# EAGLE library part CROSSBAR_24X18 (library crossbar_24x18)
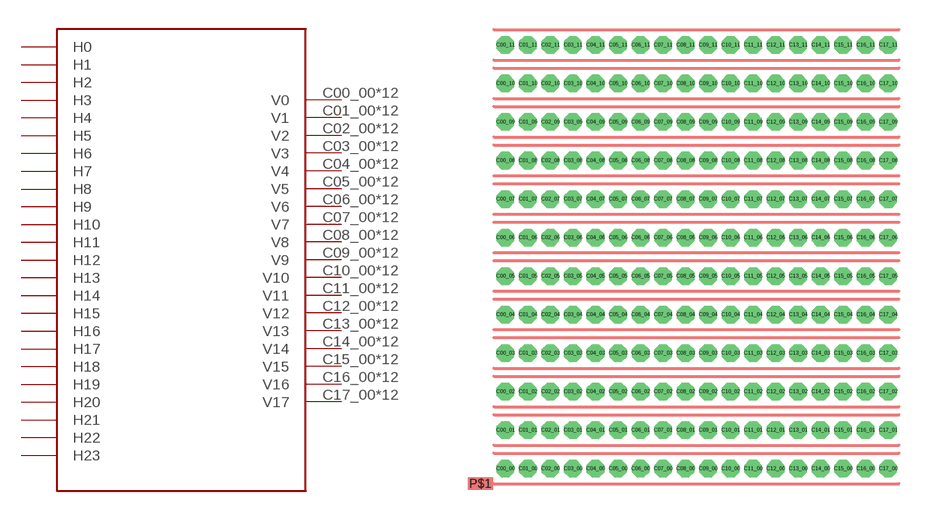
[diagram p0: symbol with the pads of CROSSBAR_24X18; footprint CROSSBAR_24X18]

Designator prefix -

## CROSSBAR_24X18  [CROSSBAR_24X18]
C00_00  V0
C00_01  V0
C00_02  V0
C00_03  V0
C00_04  V0
C00_05  V0
C00_06  V0
C00_07  V0
C00_08  V0
C00_09  V0
C00_10  V0
C00_11  V0
C01_00  V1
C01_01  V1
C01_02  V1
C01_03  V1
C01_04  V1
C01_05  V1
C01_06  V1
C01_07  V1
C01_08  V1
C01_09  V1
C01_10  V1
C01_11  V1
C02_00  V2
C02_01  V2
C02_02  V2
C02_03  V2
C02_04  V2
C02_05  V2
C02_06  V2
C02_07  V2
C02_08  V2
C02_09  V2
C02_10  V2
C02_11  V2
C03_00  V3
C03_01  V3
C03_02  V3
C03_03  V3
C03_04  V3
C03_05  V3
C03_06  V3
C03_07  V3
C03_08  V3
C03_09  V3
C03_10  V3
C03_11  V3
C04_00  V4
C04_01  V4
C04_02  V4
C04_03  V4
C04_04  V4
C04_05  V4
C04_06  V4
C04_07  V4
C04_08  V4
C04_09  V4
C04_10  V4
C04_11  V4
C05_00  V5
C05_01  V5
C05_02  V5
C05_03  V5
C05_04  V5
C05_05  V5
C05_06  V5
C05_07  V5
C05_08  V5
C05_09  V5
C05_10  V5
C05_11  V5
C06_00  V6
C06_01  V6
C06_02  V6
C06_03  V6
C06_04  V6
C06_05  V6
C06_06  V6
C06_07  V6
C06_08  V6
C06_09  V6
C06_10  V6
C06_11  V6
C07_00  V7
C07_01  V7
C07_02  V7
C07_03  V7
C07_04  V7
C07_05  V7
C07_06  V7
C07_07  V7
C07_08  V7
C07_09  V7
C07_10  V7
C07_11  V7
C08_00  V8
C08_01  V8
C08_02  V8
C08_03  V8
C08_04  V8
C08_05  V8
C08_06  V8
C08_07  V8
C08_08  V8
C08_09  V8
C08_10  V8
C08_11  V8
C09_00  V9
C09_01  V9
C09_02  V9
C09_03  V9
C09_04  V9
C09_05  V9
C09_06  V9
C09_07  V9
C09_08  V9
C09_09  V9
C09_10  V9
C09_11  V9
C10_00  V10
C10_01  V10
C10_02  V10
C10_03  V10
C10_04  V10
C10_05  V10
C10_06  V10
C10_07  V10
C10_08  V10
C10_09  V10
C10_10  V10
C10_11  V10
C11_00  V11
C11_01  V11
C11_02  V11
C11_03  V11
C11_04  V11
C11_05  V11
C11_06  V11
C11_07  V11
C11_08  V11
C11_09  V11
C11_10  V11
C11_11  V11
C12_00  V12
C12_01  V12
C12_02  V12
C12_03  V12
C12_04  V12
C12_05  V12
C12_06  V12
C12_07  V12
C12_08  V12
C12_09  V12
C12_10  V12
C12_11  V12
C13_00  V13
C13_01  V13
C13_02  V13
C13_03  V13
C13_04  V13
C13_05  V13
C13_06  V13
C13_07  V13
C13_08  V13
C13_09  V13
C13_10  V13
C13_11  V13
C14_00  V14
C14_01  V14
C14_02  V14
C14_03  V14
C14_04  V14
C14_05  V14
C14_06  V14
C14_07  V14
C14_08  V14
C14_09  V14
C14_10  V14
C14_11  V14
C15_00  V15
C15_01  V15
C15_02  V15
C15_03  V15
C15_04  V15
C15_05  V15
C15_06  V15
C15_07  V15
C15_08  V15
C15_09  V15
C15_10  V15
C15_11  V15
C16_00  V16
C16_01  V16
C16_02  V16
C16_03  V16
C16_04  V16
C16_05  V16
C16_06  V16
C16_07  V16
C16_08  V16
C16_09  V16
C16_10  V16
C16_11  V16
C17_00  V17
C17_01  V17
C17_02  V17
C17_03  V17
C17_04  V17
C17_05  V17
C17_06  V17
C17_07  V17
C17_08  V17
C17_09  V17
C17_10  V17
C17_11  V17

## Footprint CROSSBAR_24X18 (pad centres in mm)
drill 0.33 pad 0.889 octagon: C00_00 0,0.762; C00_01 0,2.718; C00_02 0,4.674; C00_03 0,6.629; C00_04 0,8.585; C00_05 0,10.541; C00_06 0,12.497; C00_07 0,14.453; C00_08 0,16.408; C00_09 0,18.364; C00_10 0,20.32; C00_11 0,22.276; C01_00 1.143,0.762; C01_01 1.143,2.718; C01_02 1.143,4.674; C01_03 1.143,6.629; C01_04 1.143,8.585; C01_05 1.143,10.541; C01_06 1.143,12.497; C01_07 1.143,14.453; C01_08 1.143,16.408; C01_09 1.143,18.364; C01_10 1.143,20.32; C01_11 1.143,22.276; C02_00 2.286,0.762; C02_01 2.286,2.718; C02_02 2.286,4.674; C02_03 2.286,6.629; C02_04 2.286,8.585; C02_05 2.286,10.541; C02_06 2.286,12.497; C02_07 2.286,14.453; C02_08 2.286,16.408; C02_09 2.286,18.364; C02_10 2.286,20.32; C02_11 2.286,22.276; C03_00 3.429,0.762; C03_01 3.429,2.718; C03_02 3.429,4.674; C03_03 3.429,6.629; C03_04 3.429,8.585; C03_05 3.429,10.541; C03_06 3.429,12.497; C03_07 3.429,14.453; C03_08 3.429,16.408; C03_09 3.429,18.364; C03_10 3.429,20.32; C03_11 3.429,22.276; C04_00 4.572,0.762; C04_01 4.572,2.718; C04_02 4.572,4.674; C04_03 4.572,6.629; C04_04 4.572,8.585; C04_05 4.572,10.541; C04_06 4.572,12.497; C04_07 4.572,14.453; C04_08 4.572,16.408; C04_09 4.572,18.364; C04_10 4.572,20.32; C04_11 4.572,22.276; C05_00 5.715,0.762; C05_01 5.715,2.718; C05_02 5.715,4.674; C05_03 5.715,6.629; C05_04 5.715,8.585; C05_05 5.715,10.541; C05_06 5.715,12.497; C05_07 5.715,14.453; C05_08 5.715,16.408; C05_09 5.715,18.364; C05_10 5.715,20.32; C05_11 5.715,22.276; C06_00 6.858,0.762; C06_01 6.858,2.718; C06_02 6.858,4.674; C06_03 6.858,6.629; C06_04 6.858,8.585; C06_05 6.858,10.541; C06_06 6.858,12.497; C06_07 6.858,14.453; C06_08 6.858,16.408; C06_09 6.858,18.364; C06_10 6.858,20.32; C06_11 6.858,22.276; C07_00 8.001,0.762; C07_01 8.001,2.718; C07_02 8.001,4.674; C07_03 8.001,6.629; C07_04 8.001,8.585; C07_05 8.001,10.541; C07_06 8.001,12.497; C07_07 8.001,14.453; C07_08 8.001,16.408; C07_09 8.001,18.364; C07_10 8.001,20.32; C07_11 8.001,22.276; C08_00 9.144,0.762; C08_01 9.144,2.718; C08_02 9.144,4.674; C08_03 9.144,6.629; C08_04 9.144,8.585; C08_05 9.144,10.541; C08_06 9.144,12.497; C08_07 9.144,14.453; C08_08 9.144,16.408; C08_09 9.144,18.364; C08_10 9.144,20.32; C08_11 9.144,22.276; C09_00 10.287,0.762; C09_01 10.287,2.718; C09_02 10.287,4.674; C09_03 10.287,6.629; C09_04 10.287,8.585; C09_05 10.287,10.541; C09_06 10.287,12.497; C09_07 10.287,14.453; C09_08 10.287,16.408; C09_09 10.287,18.364; C09_10 10.287,20.32; C09_11 10.287,22.276; C10_00 11.43,0.762; C10_01 11.43,2.718; C10_02 11.43,4.674; C10_03 11.43,6.629; C10_04 11.43,8.585; C10_05 11.43,10.541; C10_06 11.43,12.497; C10_07 11.43,14.453; C10_08 11.43,16.408; C10_09 11.43,18.364; C10_10 11.43,20.32; C10_11 11.43,22.276; C11_00 12.573,0.762; C11_01 12.573,2.718; C11_02 12.573,4.674; C11_03 12.573,6.629; C11_04 12.573,8.585; C11_05 12.573,10.541; C11_06 12.573,12.497; C11_07 12.573,14.453; C11_08 12.573,16.408; C11_09 12.573,18.364; C11_10 12.573,20.32; C11_11 12.573,22.276; C12_00 13.716,0.762; C12_01 13.716,2.718; C12_02 13.716,4.674; C12_03 13.716,6.629; C12_04 13.716,8.585; C12_05 13.716,10.541; C12_06 13.716,12.497; C12_07 13.716,14.453; C12_08 13.716,16.408; C12_09 13.716,18.364; C12_10 13.716,20.32; C12_11 13.716,22.276; C13_00 14.859,0.762; C13_01 14.859,2.718; C13_02 14.859,4.674; C13_03 14.859,6.629; C13_04 14.859,8.585; C13_05 14.859,10.541; C13_06 14.859,12.497; C13_07 14.859,14.453; C13_08 14.859,16.408; C13_09 14.859,18.364; C13_10 14.859,20.32; C13_11 14.859,22.276; C14_00 16.002,0.762; C14_01 16.002,2.718; C14_02 16.002,4.674; C14_03 16.002,6.629; C14_04 16.002,8.585; C14_05 16.002,10.541; C14_06 16.002,12.497; C14_07 16.002,14.453; C14_08 16.002,16.408; C14_09 16.002,18.364; C14_10 16.002,20.32; C14_11 16.002,22.276; C15_00 17.145,0.762; C15_01 17.145,2.718; C15_02 17.145,4.674; C15_03 17.145,6.629; C15_04 17.145,8.585; C15_05 17.145,10.541; C15_06 17.145,12.497; C15_07 17.145,14.453; C15_08 17.145,16.408; C15_09 17.145,18.364; C15_10 17.145,20.32; C15_11 17.145,22.276; C16_00 18.288,0.762; C16_01 18.288,2.718; C16_02 18.288,4.674; C16_03 18.288,6.629; C16_04 18.288,8.585; C16_05 18.288,10.541; C16_06 18.288,12.497; C16_07 18.288,14.453; C16_08 18.288,16.408; C16_09 18.288,18.364; C16_10 18.288,20.32; C16_11 18.288,22.276; C17_00 19.431,0.762; C17_01 19.431,2.718; C17_02 19.431,4.674; C17_03 19.431,6.629; C17_04 19.431,8.585; C17_05 19.431,10.541; C17_06 19.431,12.497; C17_07 19.431,14.453; C17_08 19.431,16.408; C17_09 19.431,18.364; C17_10 19.431,20.32; C17_11 19.431,22.276
smd 1.27 x 0.635: P$1 -1.27,0